# Altium integrated library GBU807.IntLib: 1 symbol
Pins are listed as number, name and electrical type; pins without a type are passive.

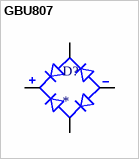
[diagram p0: symbol GBU807]

## GBU807
designator D?
8A, 1000V, Standard Bridge Rectifier; MP: GBU807; MF: Taiwan Semiconductor; Package: GBU Taiwan Semiconductor; SnapEDA_Link: https://www.snapeda.com/parts/GBU807/Taiwan+Semiconductor/view-part/?ref=snap; Purchase-URL: https://pricing.snapeda.com/search/part/GBU807/?ref=eda; Check_prices: https://www.snapeda.com/parts/GBU807/Taiwan+Semiconductor/view-part/?ref=eda; Availability: In Stock; Value: *; Price: None
footprint SIP343W114P508L2205H2134Q4
pins: AC1, AC2, NEG, POS